# Altium footprint library Connector_PinSocket_1.27mm.PcbLib: 246 footprints (part 11 of 16)
Each footprint in its own frame and in the unit in brackets; x right, y up, seen from the top. Pads: shape width x height; smd on the part's side, far side on the other; paste and mask are expansions set on the pad; w line width, h text height; cw(c..) or ccw(c..) is an arc to the next point about the centre after c.
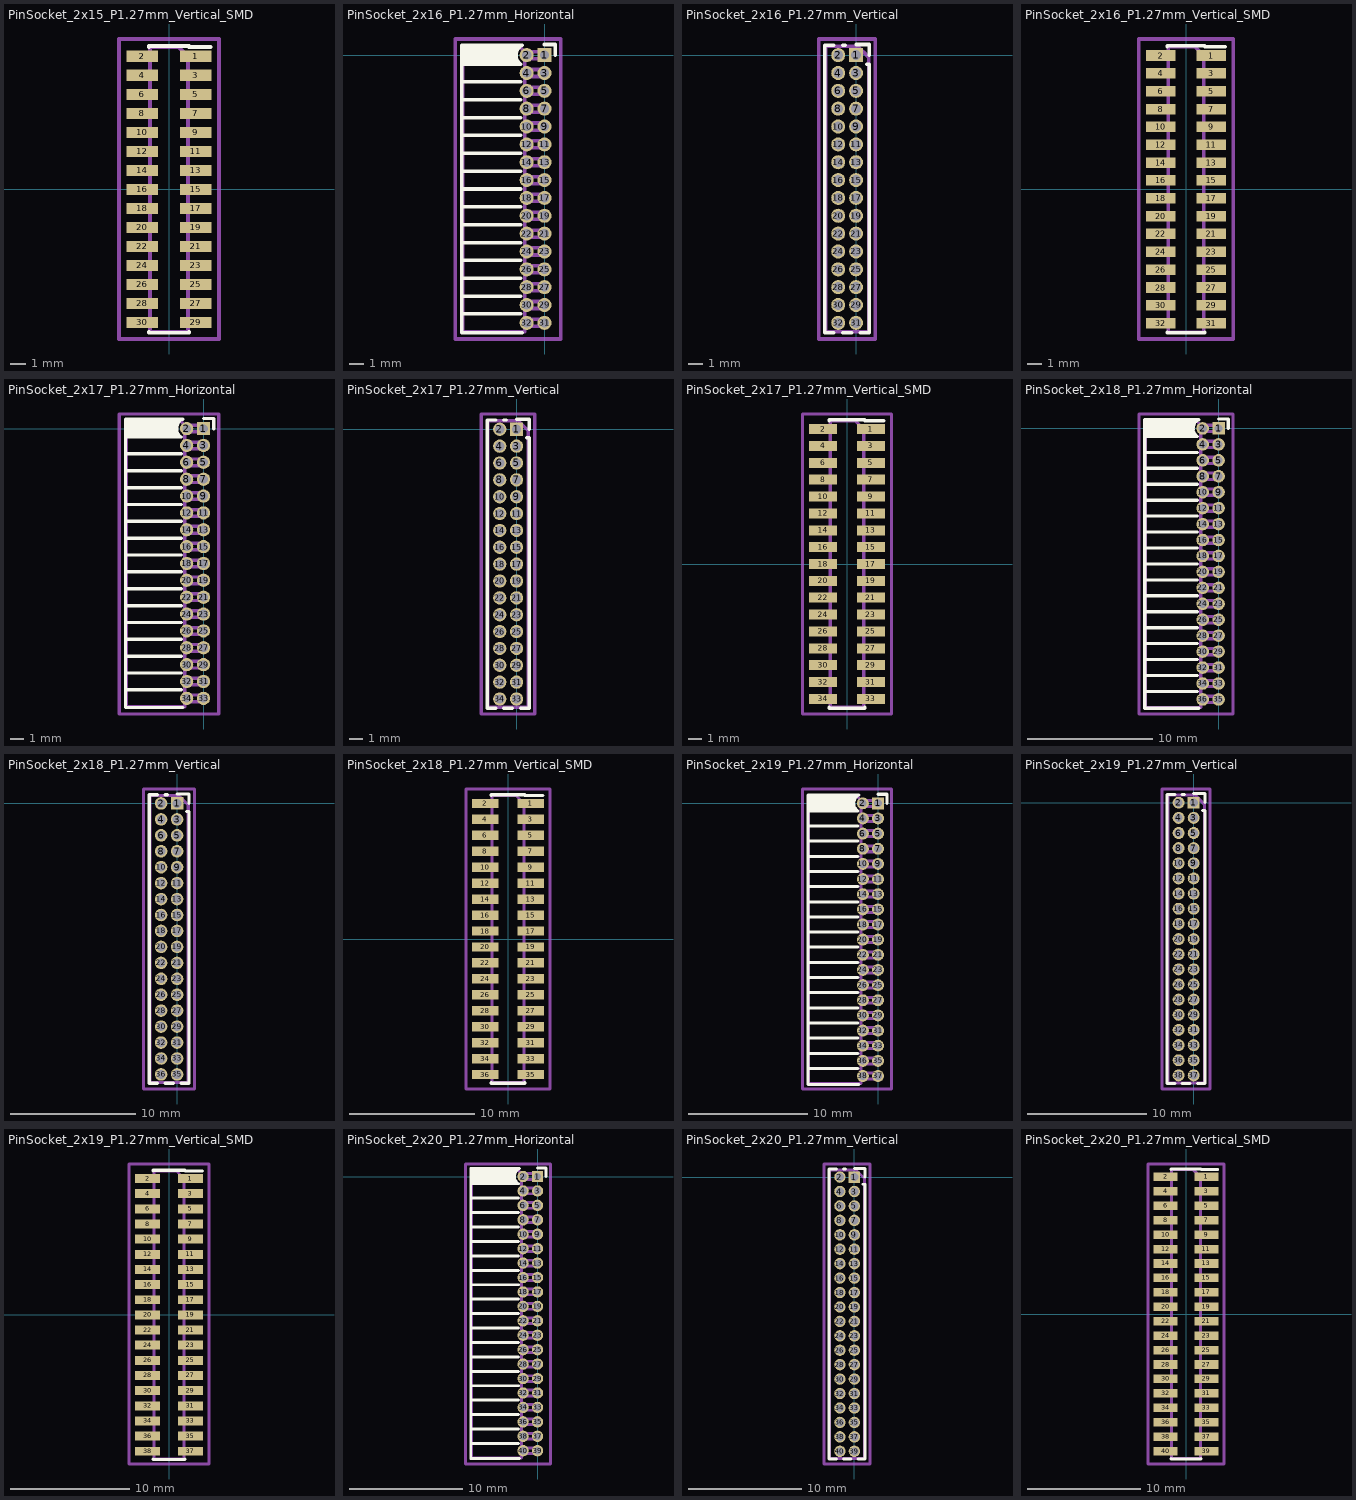
[diagram p10: the footprints below, top view; thin cyan lines are the x and y axes]

## PinSocket_2x15_P1.27mm_Vertical_SMD [mm]
pads (30):
  rect 2.1x0.75 smd: 1(1.8,8.89) 2(-1.8,8.89) 3(1.8,7.62) 4(-1.8,7.62) 5(1.8,6.35) 6(-1.8,6.35) 7(1.8,5.08) 8(-1.8,5.08) 9(1.8,3.81) 10(-1.8,3.81) 11(1.8,2.54) 12(-1.8,2.54) 13(1.8,1.27) 14(-1.8,1.27) 15(1.8,0) 16(-1.8,0) 17(1.8,-1.27) 18(-1.8,-1.27) 19(1.8,-2.54) 20(-1.8,-2.54) 21(1.8,-3.81) 22(-1.8,-3.81) 23(1.8,-5.08) 24(-1.8,-5.08) 25(1.8,-6.35) 26(-1.8,-6.35) 27(1.8,-7.62) 28(-1.8,-7.62) 29(1.8,-8.89) 30(-1.8,-8.89)
F.SilkS:
  lines w0.254: -1.33,-9.525 -1.33,-9.585 1.33,-9.585 1.33,-9.525 ; -1.33,9.525 -1.33,9.585 1.33,9.585 1.33,9.525 2.79,9.525
Top Assembly:
  lines w0.254: -1.27,-9.09 -2.555,-9.09 -2.555,-8.69 -1.27,-8.69 ; -1.27,-7.82 -2.555,-7.82 -2.555,-7.42 -1.27,-7.42 ; -1.27,-6.55 -2.555,-6.55 -2.555,-6.15 -1.27,-6.15 ; -1.27,-5.28 -2.555,-5.28 -2.555,-4.88 -1.27,-4.88 ; -1.27,-4.01 -2.555,-4.01 -2.555,-3.61 -1.27,-3.61 ; -1.27,-2.74 -2.555,-2.74 -2.555,-2.34 -1.27,-2.34 ; -1.27,-1.47 -2.555,-1.47 -2.555,-1.07 -1.27,-1.07 ; -1.27,-0.2 -2.555,-0.2 -2.555,0.2 -1.27,0.2 ; -1.27,1.07 -2.555,1.07 -2.555,1.47 -1.27,1.47 ; -1.27,2.34 -2.555,2.34 -2.555,2.74 -1.27,2.74 ; -1.27,3.61 -2.555,3.61 -2.555,4.01 -1.27,4.01 ; -1.27,4.88 -2.555,4.88 -2.555,5.28 -1.27,5.28 ; -1.27,6.15 -2.555,6.15 -2.555,6.55 -1.27,6.55 ; -1.27,7.42 -2.555,7.42 -2.555,7.82 -1.27,7.82 ; -1.27,8.69 -2.555,8.69 -2.555,9.09 -1.27,9.09 ; 1.27,-9.09 2.555,-9.09 2.555,-8.69 1.27,-8.69 ; 1.27,-7.82 2.555,-7.82 2.555,-7.42 1.27,-7.42 ; 1.27,-6.55 2.555,-6.55 2.555,-6.15 1.27,-6.15 ; 1.27,-5.28 2.555,-5.28 2.555,-4.88 1.27,-4.88 ; 1.27,-4.01 2.555,-4.01 2.555,-3.61 1.27,-3.61 ; 1.27,-2.74 2.555,-2.74 2.555,-2.34 1.27,-2.34 ; 1.27,-1.47 2.555,-1.47 2.555,-1.07 1.27,-1.07 ; 1.27,-0.2 2.555,-0.2 2.555,0.2 1.27,0.2 ; 1.27,1.07 2.555,1.07 2.555,1.47 1.27,1.47 ; 1.27,2.34 2.555,2.34 2.555,2.74 1.27,2.74 ; 1.27,3.61 2.555,3.61 2.555,4.01 1.27,4.01 ; 1.27,4.88 2.555,4.88 2.555,5.28 1.27,5.28 ; 1.27,6.15 2.555,6.15 2.555,6.55 1.27,6.55 ; 1.27,7.42 2.555,7.42 2.555,7.82 1.27,7.82 ; 1.27,8.69 2.555,8.69 2.555,9.09 1.27,9.09 ; -1.27,-9.525 1.27,-9.525 1.27,8.89 0.635,9.525 -1.27,9.525 -1.27,-9.525
  text "'.Designator'" at 0.84,-4.047 h1
Top Courtyard:
  lines w0.254: -3.35,-10 3.35,-10 3.35,10.05 -3.35,10.05 -3.35,-10
Top Designator:
  text ".Designator" at -7.618,-0.483 h1.52

## PinSocket_2x16_P1.27mm_Horizontal [mm]
pads (32):
  rect 1x1 hole 0.65: 1(0,0)
  round 1 hole 0.65: 2(-1.27,0) 3(0,-1.27) 4(-1.27,-1.27) 5(0,-2.54) 6(-1.27,-2.54) 7(0,-3.81) 8(-1.27,-3.81) 9(0,-5.08) 10(-1.27,-5.08) 11(0,-6.35) 12(-1.27,-6.35) 13(0,-7.62) 14(-1.27,-7.62) 15(0,-8.89) 16(-1.27,-8.89) 17(0,-10.16) 18(-1.27,-10.16) 19(0,-11.43) 20(-1.27,-11.43) 21(0,-12.7) 22(-1.27,-12.7) 23(0,-13.97) 24(-1.27,-13.97) 25(0,-15.24) 26(-1.27,-15.24) 27(0,-16.51) 28(-1.27,-16.51) 29(0,-17.78) 30(-1.27,-17.78) 31(0,-19.05) 32(-1.27,-19.05)
F.SilkS:
  lines w0.254: -5.88,-18.415 -1.688,-18.415 ; -5.88,-17.145 -1.688,-17.145 ; -5.88,-15.875 -1.688,-15.875 ; -5.88,-14.605 -1.688,-14.605 ; -5.88,-13.335 -1.688,-13.335 ; -5.88,-12.065 -1.688,-12.065 ; -5.88,-10.795 -1.688,-10.795 ; -5.88,-9.525 -1.688,-9.525 ; -5.88,-8.255 -1.688,-8.255 ; -5.88,-6.985 -1.688,-6.985 ; -5.88,-5.715 -1.688,-5.715 ; -5.88,-4.445 -1.688,-4.445 ; -5.88,-3.175 -1.688,-3.175 ; -5.88,-1.905 -1.688,-1.905 ; -5.88,-0.635 -1.688,-0.635 ; -5.88,-0.525 -1.82,-0.525 ; -5.88,-0.415 -1.907,-0.415 ; -5.88,-0.305 -1.966,-0.305 ; -5.88,-0.195 -2.005,-0.195 ; -5.88,-0.085 -2.025,-0.085 ; -5.88,0.025 -2.03,0.025 ; -5.88,0.135 -2.018,0.135 ; -5.88,0.245 -1.989,0.245 ; -5.88,0.355 -1.942,0.355 ; -5.88,0.465 -1.871,0.465 ; -5.88,0.575 -1.767,0.575 ; -1.578,-19.745 -5.88,-19.745 -5.88,0.695 -1.578,0.695 ; 0,0.76 0.76,0.76 0.76,0
Top Assembly:
  lines w0.254: -1.42,-19.3 0,-19.3 0,-18.8 -1.42,-18.8 ; -1.42,-18.03 0,-18.03 0,-17.53 -1.42,-17.53 ; -1.42,-16.76 0,-16.76 0,-16.26 -1.42,-16.26 ; -1.42,-15.49 0,-15.49 0,-14.99 -1.42,-14.99 ; -1.42,-14.22 0,-14.22 0,-13.72 -1.42,-13.72 ; -1.42,-12.95 0,-12.95 0,-12.45 -1.42,-12.45 ; -1.42,-11.68 0,-11.68 0,-11.18 -1.42,-11.18 ; -1.42,-10.41 0,-10.41 0,-9.91 -1.42,-9.91 ; -1.42,-9.14 0,-9.14 0,-8.64 -1.42,-8.64 ; -1.42,-7.87 0,-7.87 0,-7.37 -1.42,-7.37 ; -1.42,-6.6 0,-6.6 0,-6.1 -1.42,-6.1 ; -1.42,-5.33 0,-5.33 0,-4.83 -1.42,-4.83 ; -1.42,-4.06 0,-4.06 0,-3.56 -1.42,-3.56 ; -1.42,-2.79 0,-2.79 0,-2.29 -1.42,-2.29 ; -1.42,-1.52 0,-1.52 0,-1.02 -1.42,-1.02 ; -1.42,-0.25 0,-0.25 0,0.25 -1.42,0.25 ; -1.42,0.25 -1.42,-19.685 -5.82,-19.685 -5.82,0.635 -1.805,0.635 -1.42,0.25
  text "'.Designator'" at -2.78,-13.572 h1
Top Courtyard:
  lines w0.254: -6.35,-20.2 1.15,-20.2 1.15,1.15 -6.35,1.15 -6.35,-20.2
Top Designator:
  text ".Designator" at -10.218,-10.033 h1.52

## PinSocket_2x16_P1.27mm_Vertical [mm]
pads (32):
  rect 1x1 hole 0.7: 1(0,0)
  round 1 hole 0.7: 2(-1.27,0) 3(0,-1.27) 4(-1.27,-1.27) 5(0,-2.54) 6(-1.27,-2.54) 7(0,-3.81) 8(-1.27,-3.81) 9(0,-5.08) 10(-1.27,-5.08) 11(0,-6.35) 12(-1.27,-6.35) 13(0,-7.62) 14(-1.27,-7.62) 15(0,-8.89) 16(-1.27,-8.89) 17(0,-10.16) 18(-1.27,-10.16) 19(0,-11.43) 20(-1.27,-11.43) 21(0,-12.7) 22(-1.27,-12.7) 23(0,-13.97) 24(-1.27,-13.97) 25(0,-15.24) 26(-1.27,-15.24) 27(0,-16.51) 28(-1.27,-16.51) 29(0,-17.78) 30(-1.27,-17.78) 31(0,-19.05) 32(-1.27,-19.05)
F.SilkS:
  lines w0.254: -1.578,-19.745 -2.22,-19.745 -2.22,0.695 -1.578,0.695 ; -0.962,-19.745 -0.308,-19.745 ; -0.962,0.695 -0.76,0.695 ; 0,0.76 0.95,0.76 0.95,0 ; 0.308,-19.745 0.95,-19.745 0.95,-0.635 0.76,-0.635
Top Assembly:
  lines w0.254: -2.16,-19.685 0.89,-19.685 0.89,-0.128 0.128,0.635 -2.16,0.635 -2.16,-19.685
  text "'.Designator'" at 0.205,-13.572 h1
Top Courtyard:
  lines w0.254: -2.67,-20.2 1.38,-20.2 1.38,1.15 -2.67,1.15 -2.67,-20.2
Top Designator:
  text ".Designator" at -8.263,-10.033 h1.52

## PinSocket_2x16_P1.27mm_Vertical_SMD [mm]
pads (32):
  rect 2.1x0.75 smd: 1(1.8,9.525) 2(-1.8,9.525) 3(1.8,8.255) 4(-1.8,8.255) 5(1.8,6.985) 6(-1.8,6.985) 7(1.8,5.715) 8(-1.8,5.715) 9(1.8,4.445) 10(-1.8,4.445) 11(1.8,3.175) 12(-1.8,3.175) 13(1.8,1.905) 14(-1.8,1.905) 15(1.8,0.635) 16(-1.8,0.635) 17(1.8,-0.635) 18(-1.8,-0.635) 19(1.8,-1.905) 20(-1.8,-1.905) 21(1.8,-3.175) 22(-1.8,-3.175) 23(1.8,-4.445) 24(-1.8,-4.445) 25(1.8,-5.715) 26(-1.8,-5.715) 27(1.8,-6.985) 28(-1.8,-6.985) 29(1.8,-8.255) 30(-1.8,-8.255) 31(1.8,-9.525) 32(-1.8,-9.525)
F.SilkS:
  lines w0.254: -1.33,-10.16 -1.33,-10.22 1.33,-10.22 1.33,-10.16 ; -1.33,10.16 -1.33,10.22 1.33,10.22 1.33,10.16 2.79,10.16
Top Assembly:
  lines w0.254: -1.27,-9.725 -2.555,-9.725 -2.555,-9.325 -1.27,-9.325 ; -1.27,-8.455 -2.555,-8.455 -2.555,-8.055 -1.27,-8.055 ; -1.27,-7.185 -2.555,-7.185 -2.555,-6.785 -1.27,-6.785 ; -1.27,-5.915 -2.555,-5.915 -2.555,-5.515 -1.27,-5.515 ; -1.27,-4.645 -2.555,-4.645 -2.555,-4.245 -1.27,-4.245 ; -1.27,-3.375 -2.555,-3.375 -2.555,-2.975 -1.27,-2.975 ; -1.27,-2.105 -2.555,-2.105 -2.555,-1.705 -1.27,-1.705 ; -1.27,-0.835 -2.555,-0.835 -2.555,-0.435 -1.27,-0.435 ; -1.27,0.435 -2.555,0.435 -2.555,0.835 -1.27,0.835 ; -1.27,1.705 -2.555,1.705 -2.555,2.105 -1.27,2.105 ; -1.27,2.975 -2.555,2.975 -2.555,3.375 -1.27,3.375 ; -1.27,4.245 -2.555,4.245 -2.555,4.645 -1.27,4.645 ; -1.27,5.515 -2.555,5.515 -2.555,5.915 -1.27,5.915 ; -1.27,6.785 -2.555,6.785 -2.555,7.185 -1.27,7.185 ; -1.27,8.055 -2.555,8.055 -2.555,8.455 -1.27,8.455 ; -1.27,9.325 -2.555,9.325 -2.555,9.725 -1.27,9.725 ; 1.27,-9.725 2.555,-9.725 2.555,-9.325 1.27,-9.325 ; 1.27,-8.455 2.555,-8.455 2.555,-8.055 1.27,-8.055 ; 1.27,-7.185 2.555,-7.185 2.555,-6.785 1.27,-6.785 ; 1.27,-5.915 2.555,-5.915 2.555,-5.515 1.27,-5.515 ; 1.27,-4.645 2.555,-4.645 2.555,-4.245 1.27,-4.245 ; 1.27,-3.375 2.555,-3.375 2.555,-2.975 1.27,-2.975 ; 1.27,-2.105 2.555,-2.105 2.555,-1.705 1.27,-1.705 ; 1.27,-0.835 2.555,-0.835 2.555,-0.435 1.27,-0.435 ; 1.27,0.435 2.555,0.435 2.555,0.835 1.27,0.835 ; 1.27,1.705 2.555,1.705 2.555,2.105 1.27,2.105 ; 1.27,2.975 2.555,2.975 2.555,3.375 1.27,3.375 ; 1.27,4.245 2.555,4.245 2.555,4.645 1.27,4.645 ; 1.27,5.515 2.555,5.515 2.555,5.915 1.27,5.915 ; 1.27,6.785 2.555,6.785 2.555,7.185 1.27,7.185 ; 1.27,8.055 2.555,8.055 2.555,8.455 1.27,8.455 ; 1.27,9.325 2.555,9.325 2.555,9.725 1.27,9.725 ; -1.27,-10.16 1.27,-10.16 1.27,9.525 0.635,10.16 -1.27,10.16 -1.27,-10.16
  text "'.Designator'" at 0.84,-4.047 h1
Top Courtyard:
  lines w0.254: -3.35,-10.65 3.35,-10.65 3.35,10.7 -3.35,10.7 -3.35,-10.65
Top Designator:
  text ".Designator" at -7.618,-0.483 h1.52

## PinSocket_2x17_P1.27mm_Horizontal [mm]
pads (34):
  rect 1x1 hole 0.65: 1(0,0)
  round 1 hole 0.65: 2(-1.27,0) 3(0,-1.27) 4(-1.27,-1.27) 5(0,-2.54) 6(-1.27,-2.54) 7(0,-3.81) 8(-1.27,-3.81) 9(0,-5.08) 10(-1.27,-5.08) 11(0,-6.35) 12(-1.27,-6.35) 13(0,-7.62) 14(-1.27,-7.62) 15(0,-8.89) 16(-1.27,-8.89) 17(0,-10.16) 18(-1.27,-10.16) 19(0,-11.43) 20(-1.27,-11.43) 21(0,-12.7) 22(-1.27,-12.7) 23(0,-13.97) 24(-1.27,-13.97) 25(0,-15.24) 26(-1.27,-15.24) 27(0,-16.51) 28(-1.27,-16.51) 29(0,-17.78) 30(-1.27,-17.78) 31(0,-19.05) 32(-1.27,-19.05) 33(0,-20.32) 34(-1.27,-20.32)
F.SilkS:
  lines w0.254: -5.88,-19.685 -1.688,-19.685 ; -5.88,-18.415 -1.688,-18.415 ; -5.88,-17.145 -1.688,-17.145 ; -5.88,-15.875 -1.688,-15.875 ; -5.88,-14.605 -1.688,-14.605 ; -5.88,-13.335 -1.688,-13.335 ; -5.88,-12.065 -1.688,-12.065 ; -5.88,-10.795 -1.688,-10.795 ; -5.88,-9.525 -1.688,-9.525 ; -5.88,-8.255 -1.688,-8.255 ; -5.88,-6.985 -1.688,-6.985 ; -5.88,-5.715 -1.688,-5.715 ; -5.88,-4.445 -1.688,-4.445 ; -5.88,-3.175 -1.688,-3.175 ; -5.88,-1.905 -1.688,-1.905 ; -5.88,-0.635 -1.688,-0.635 ; -5.88,-0.525 -1.82,-0.525 ; -5.88,-0.415 -1.907,-0.415 ; -5.88,-0.305 -1.966,-0.305 ; -5.88,-0.195 -2.005,-0.195 ; -5.88,-0.085 -2.025,-0.085 ; -5.88,0.025 -2.03,0.025 ; -5.88,0.135 -2.018,0.135 ; -5.88,0.245 -1.989,0.245 ; -5.88,0.355 -1.942,0.355 ; -5.88,0.465 -1.871,0.465 ; -5.88,0.575 -1.767,0.575 ; -1.578,-21.015 -5.88,-21.015 -5.88,0.695 -1.578,0.695 ; 0,0.76 0.76,0.76 0.76,0
Top Assembly:
  lines w0.254: -1.42,-20.57 0,-20.57 0,-20.07 -1.42,-20.07 ; -1.42,-19.3 0,-19.3 0,-18.8 -1.42,-18.8 ; -1.42,-18.03 0,-18.03 0,-17.53 -1.42,-17.53 ; -1.42,-16.76 0,-16.76 0,-16.26 -1.42,-16.26 ; -1.42,-15.49 0,-15.49 0,-14.99 -1.42,-14.99 ; -1.42,-14.22 0,-14.22 0,-13.72 -1.42,-13.72 ; -1.42,-12.95 0,-12.95 0,-12.45 -1.42,-12.45 ; -1.42,-11.68 0,-11.68 0,-11.18 -1.42,-11.18 ; -1.42,-10.41 0,-10.41 0,-9.91 -1.42,-9.91 ; -1.42,-9.14 0,-9.14 0,-8.64 -1.42,-8.64 ; -1.42,-7.87 0,-7.87 0,-7.37 -1.42,-7.37 ; -1.42,-6.6 0,-6.6 0,-6.1 -1.42,-6.1 ; -1.42,-5.33 0,-5.33 0,-4.83 -1.42,-4.83 ; -1.42,-4.06 0,-4.06 0,-3.56 -1.42,-3.56 ; -1.42,-2.79 0,-2.79 0,-2.29 -1.42,-2.29 ; -1.42,-1.52 0,-1.52 0,-1.02 -1.42,-1.02 ; -1.42,-0.25 0,-0.25 0,0.25 -1.42,0.25 ; -1.42,0.25 -1.42,-20.955 -5.82,-20.955 -5.82,0.635 -1.805,0.635 -1.42,0.25
  text "'.Designator'" at -2.78,-14.207 h1
Top Courtyard:
  lines w0.254: -6.35,-21.5 1.15,-21.5 1.15,1.1 -6.35,1.1 -6.35,-21.5
Top Designator:
  text ".Designator" at -10.218,-10.708 h1.52

## PinSocket_2x17_P1.27mm_Vertical [mm]
pads (34):
  rect 1x1 hole 0.7: 1(0,0)
  round 1 hole 0.7: 2(-1.27,0) 3(0,-1.27) 4(-1.27,-1.27) 5(0,-2.54) 6(-1.27,-2.54) 7(0,-3.81) 8(-1.27,-3.81) 9(0,-5.08) 10(-1.27,-5.08) 11(0,-6.35) 12(-1.27,-6.35) 13(0,-7.62) 14(-1.27,-7.62) 15(0,-8.89) 16(-1.27,-8.89) 17(0,-10.16) 18(-1.27,-10.16) 19(0,-11.43) 20(-1.27,-11.43) 21(0,-12.7) 22(-1.27,-12.7) 23(0,-13.97) 24(-1.27,-13.97) 25(0,-15.24) 26(-1.27,-15.24) 27(0,-16.51) 28(-1.27,-16.51) 29(0,-17.78) 30(-1.27,-17.78) 31(0,-19.05) 32(-1.27,-19.05) 33(0,-20.32) 34(-1.27,-20.32)
F.SilkS:
  lines w0.254: -1.578,-21.015 -2.22,-21.015 -2.22,0.695 -1.578,0.695 ; -0.962,-21.015 -0.308,-21.015 ; -0.962,0.695 -0.76,0.695 ; 0,0.76 0.95,0.76 0.95,0 ; 0.308,-21.015 0.95,-21.015 0.95,-0.635 0.76,-0.635
Top Assembly:
  lines w0.254: -2.16,-20.955 0.89,-20.955 0.89,-0.128 0.128,0.635 -2.16,0.635 -2.16,-20.955
  text "'.Designator'" at 0.205,-14.207 h1
Top Courtyard:
  lines w0.254: -2.67,-21.45 1.38,-21.45 1.38,1.15 -2.67,1.15 -2.67,-21.45
Top Designator:
  text ".Designator" at -8.263,-10.658 h1.52

## PinSocket_2x17_P1.27mm_Vertical_SMD [mm]
pads (34):
  rect 2.1x0.75 smd: 1(1.8,10.16) 2(-1.8,10.16) 3(1.8,8.89) 4(-1.8,8.89) 5(1.8,7.62) 6(-1.8,7.62) 7(1.8,6.35) 8(-1.8,6.35) 9(1.8,5.08) 10(-1.8,5.08) 11(1.8,3.81) 12(-1.8,3.81) 13(1.8,2.54) 14(-1.8,2.54) 15(1.8,1.27) 16(-1.8,1.27) 17(1.8,0) 18(-1.8,0) 19(1.8,-1.27) 20(-1.8,-1.27) 21(1.8,-2.54) 22(-1.8,-2.54) 23(1.8,-3.81) 24(-1.8,-3.81) 25(1.8,-5.08) 26(-1.8,-5.08) 27(1.8,-6.35) 28(-1.8,-6.35) 29(1.8,-7.62) 30(-1.8,-7.62) 31(1.8,-8.89) 32(-1.8,-8.89) 33(1.8,-10.16) 34(-1.8,-10.16)
F.SilkS:
  lines w0.254: -1.33,-10.795 -1.33,-10.855 1.33,-10.855 1.33,-10.795 ; -1.33,10.795 -1.33,10.855 1.33,10.855 1.33,10.795 2.79,10.795
Top Assembly:
  lines w0.254: -1.27,-10.36 -2.555,-10.36 -2.555,-9.96 -1.27,-9.96 ; -1.27,-9.09 -2.555,-9.09 -2.555,-8.69 -1.27,-8.69 ; -1.27,-7.82 -2.555,-7.82 -2.555,-7.42 -1.27,-7.42 ; -1.27,-6.55 -2.555,-6.55 -2.555,-6.15 -1.27,-6.15 ; -1.27,-5.28 -2.555,-5.28 -2.555,-4.88 -1.27,-4.88 ; -1.27,-4.01 -2.555,-4.01 -2.555,-3.61 -1.27,-3.61 ; -1.27,-2.74 -2.555,-2.74 -2.555,-2.34 -1.27,-2.34 ; -1.27,-1.47 -2.555,-1.47 -2.555,-1.07 -1.27,-1.07 ; -1.27,-0.2 -2.555,-0.2 -2.555,0.2 -1.27,0.2 ; -1.27,1.07 -2.555,1.07 -2.555,1.47 -1.27,1.47 ; -1.27,2.34 -2.555,2.34 -2.555,2.74 -1.27,2.74 ; -1.27,3.61 -2.555,3.61 -2.555,4.01 -1.27,4.01 ; -1.27,4.88 -2.555,4.88 -2.555,5.28 -1.27,5.28 ; -1.27,6.15 -2.555,6.15 -2.555,6.55 -1.27,6.55 ; -1.27,7.42 -2.555,7.42 -2.555,7.82 -1.27,7.82 ; -1.27,8.69 -2.555,8.69 -2.555,9.09 -1.27,9.09 ; -1.27,9.96 -2.555,9.96 -2.555,10.36 -1.27,10.36 ; 1.27,-10.36 2.555,-10.36 2.555,-9.96 1.27,-9.96 ; 1.27,-9.09 2.555,-9.09 2.555,-8.69 1.27,-8.69 ; 1.27,-7.82 2.555,-7.82 2.555,-7.42 1.27,-7.42 ; 1.27,-6.55 2.555,-6.55 2.555,-6.15 1.27,-6.15 ; 1.27,-5.28 2.555,-5.28 2.555,-4.88 1.27,-4.88 ; 1.27,-4.01 2.555,-4.01 2.555,-3.61 1.27,-3.61 ; 1.27,-2.74 2.555,-2.74 2.555,-2.34 1.27,-2.34 ; 1.27,-1.47 2.555,-1.47 2.555,-1.07 1.27,-1.07 ; 1.27,-0.2 2.555,-0.2 2.555,0.2 1.27,0.2 ; 1.27,1.07 2.555,1.07 2.555,1.47 1.27,1.47 ; 1.27,2.34 2.555,2.34 2.555,2.74 1.27,2.74 ; 1.27,3.61 2.555,3.61 2.555,4.01 1.27,4.01 ; 1.27,4.88 2.555,4.88 2.555,5.28 1.27,5.28 ; 1.27,6.15 2.555,6.15 2.555,6.55 1.27,6.55 ; 1.27,7.42 2.555,7.42 2.555,7.82 1.27,7.82 ; 1.27,8.69 2.555,8.69 2.555,9.09 1.27,9.09 ; 1.27,9.96 2.555,9.96 2.555,10.36 1.27,10.36 ; -1.27,-10.795 1.27,-10.795 1.27,10.16 0.635,10.795 -1.27,10.795 -1.27,-10.795
  text "'.Designator'" at 0.84,-4.047 h1
Top Courtyard:
  lines w0.254: -3.35,-11.3 3.35,-11.3 3.35,11.3 -3.35,11.3 -3.35,-11.3
Top Designator:
  text ".Designator" at -7.618,-0.508 h1.52

## PinSocket_2x18_P1.27mm_Horizontal [mm]
pads (36):
  rect 1x1 hole 0.65: 1(0,0)
  round 1 hole 0.65: 2(-1.27,0) 3(0,-1.27) 4(-1.27,-1.27) 5(0,-2.54) 6(-1.27,-2.54) 7(0,-3.81) 8(-1.27,-3.81) 9(0,-5.08) 10(-1.27,-5.08) 11(0,-6.35) 12(-1.27,-6.35) 13(0,-7.62) 14(-1.27,-7.62) 15(0,-8.89) 16(-1.27,-8.89) 17(0,-10.16) 18(-1.27,-10.16) 19(0,-11.43) 20(-1.27,-11.43) 21(0,-12.7) 22(-1.27,-12.7) 23(0,-13.97) 24(-1.27,-13.97) 25(0,-15.24) 26(-1.27,-15.24) 27(0,-16.51) 28(-1.27,-16.51) 29(0,-17.78) 30(-1.27,-17.78) 31(0,-19.05) 32(-1.27,-19.05) 33(0,-20.32) 34(-1.27,-20.32) 35(0,-21.59) 36(-1.27,-21.59)
F.SilkS:
  lines w0.254: -5.88,-20.955 -1.688,-20.955 ; -5.88,-19.685 -1.688,-19.685 ; -5.88,-18.415 -1.688,-18.415 ; -5.88,-17.145 -1.688,-17.145 ; -5.88,-15.875 -1.688,-15.875 ; -5.88,-14.605 -1.688,-14.605 ; -5.88,-13.335 -1.688,-13.335 ; -5.88,-12.065 -1.688,-12.065 ; -5.88,-10.795 -1.688,-10.795 ; -5.88,-9.525 -1.688,-9.525 ; -5.88,-8.255 -1.688,-8.255 ; -5.88,-6.985 -1.688,-6.985 ; -5.88,-5.715 -1.688,-5.715 ; -5.88,-4.445 -1.688,-4.445 ; -5.88,-3.175 -1.688,-3.175 ; -5.88,-1.905 -1.688,-1.905 ; -5.88,-0.635 -1.688,-0.635 ; -5.88,-0.525 -1.82,-0.525 ; -5.88,-0.415 -1.907,-0.415 ; -5.88,-0.305 -1.966,-0.305 ; -5.88,-0.195 -2.005,-0.195 ; -5.88,-0.085 -2.025,-0.085 ; -5.88,0.025 -2.03,0.025 ; -5.88,0.135 -2.018,0.135 ; -5.88,0.245 -1.989,0.245 ; -5.88,0.355 -1.942,0.355 ; -5.88,0.465 -1.871,0.465 ; -5.88,0.575 -1.767,0.575 ; -1.578,-22.285 -5.88,-22.285 -5.88,0.695 -1.578,0.695 ; 0,0.76 0.76,0.76 0.76,0
Top Assembly:
  lines w0.254: -1.42,-21.84 0,-21.84 0,-21.34 -1.42,-21.34 ; -1.42,-20.57 0,-20.57 0,-20.07 -1.42,-20.07 ; -1.42,-19.3 0,-19.3 0,-18.8 -1.42,-18.8 ; -1.42,-18.03 0,-18.03 0,-17.53 -1.42,-17.53 ; -1.42,-16.76 0,-16.76 0,-16.26 -1.42,-16.26 ; -1.42,-15.49 0,-15.49 0,-14.99 -1.42,-14.99 ; -1.42,-14.22 0,-14.22 0,-13.72 -1.42,-13.72 ; -1.42,-12.95 0,-12.95 0,-12.45 -1.42,-12.45 ; -1.42,-11.68 0,-11.68 0,-11.18 -1.42,-11.18 ; -1.42,-10.41 0,-10.41 0,-9.91 -1.42,-9.91 ; -1.42,-9.14 0,-9.14 0,-8.64 -1.42,-8.64 ; -1.42,-7.87 0,-7.87 0,-7.37 -1.42,-7.37 ; -1.42,-6.6 0,-6.6 0,-6.1 -1.42,-6.1 ; -1.42,-5.33 0,-5.33 0,-4.83 -1.42,-4.83 ; -1.42,-4.06 0,-4.06 0,-3.56 -1.42,-3.56 ; -1.42,-2.79 0,-2.79 0,-2.29 -1.42,-2.29 ; -1.42,-1.52 0,-1.52 0,-1.02 -1.42,-1.02 ; -1.42,-0.25 0,-0.25 0,0.25 -1.42,0.25 ; -1.42,0.25 -1.42,-22.225 -5.82,-22.225 -5.82,0.635 -1.805,0.635 -1.42,0.25
  text "'.Designator'" at -2.78,-14.842 h1
Top Courtyard:
  lines w0.254: -6.35,-22.75 1.15,-22.75 1.15,1.15 -6.35,1.15 -6.35,-22.75
Top Designator:
  text ".Designator" at -10.218,-11.308 h1.52

## PinSocket_2x18_P1.27mm_Vertical [mm]
pads (36):
  rect 1x1 hole 0.7: 1(0,0)
  round 1 hole 0.7: 2(-1.27,0) 3(0,-1.27) 4(-1.27,-1.27) 5(0,-2.54) 6(-1.27,-2.54) 7(0,-3.81) 8(-1.27,-3.81) 9(0,-5.08) 10(-1.27,-5.08) 11(0,-6.35) 12(-1.27,-6.35) 13(0,-7.62) 14(-1.27,-7.62) 15(0,-8.89) 16(-1.27,-8.89) 17(0,-10.16) 18(-1.27,-10.16) 19(0,-11.43) 20(-1.27,-11.43) 21(0,-12.7) 22(-1.27,-12.7) 23(0,-13.97) 24(-1.27,-13.97) 25(0,-15.24) 26(-1.27,-15.24) 27(0,-16.51) 28(-1.27,-16.51) 29(0,-17.78) 30(-1.27,-17.78) 31(0,-19.05) 32(-1.27,-19.05) 33(0,-20.32) 34(-1.27,-20.32) 35(0,-21.59) 36(-1.27,-21.59)
F.SilkS:
  lines w0.254: -1.578,-22.285 -2.22,-22.285 -2.22,0.695 -1.578,0.695 ; -0.962,-22.285 -0.308,-22.285 ; -0.962,0.695 -0.76,0.695 ; 0,0.76 0.95,0.76 0.95,0 ; 0.308,-22.285 0.95,-22.285 0.95,-0.635 0.76,-0.635
Top Assembly:
  lines w0.254: -2.16,-22.225 0.89,-22.225 0.89,-0.128 0.128,0.635 -2.16,0.635 -2.16,-22.225
  text "'.Designator'" at 0.205,-14.842 h1
Top Courtyard:
  lines w0.254: -2.67,-22.75 1.38,-22.75 1.38,1.15 -2.67,1.15 -2.67,-22.75
Top Designator:
  text ".Designator" at -8.263,-11.308 h1.52

## PinSocket_2x18_P1.27mm_Vertical_SMD [mm]
pads (36):
  rect 2.1x0.75 smd: 1(1.8,10.795) 2(-1.8,10.795) 3(1.8,9.525) 4(-1.8,9.525) 5(1.8,8.255) 6(-1.8,8.255) 7(1.8,6.985) 8(-1.8,6.985) 9(1.8,5.715) 10(-1.8,5.715) 11(1.8,4.445) 12(-1.8,4.445) 13(1.8,3.175) 14(-1.8,3.175) 15(1.8,1.905) 16(-1.8,1.905) 17(1.8,0.635) 18(-1.8,0.635) 19(1.8,-0.635) 20(-1.8,-0.635) 21(1.8,-1.905) 22(-1.8,-1.905) 23(1.8,-3.175) 24(-1.8,-3.175) 25(1.8,-4.445) 26(-1.8,-4.445) 27(1.8,-5.715) 28(-1.8,-5.715) 29(1.8,-6.985) 30(-1.8,-6.985) 31(1.8,-8.255) 32(-1.8,-8.255) 33(1.8,-9.525) 34(-1.8,-9.525) 35(1.8,-10.795) 36(-1.8,-10.795)
F.SilkS:
  lines w0.254: -1.33,-11.43 -1.33,-11.49 1.33,-11.49 1.33,-11.43 ; -1.33,11.43 -1.33,11.49 1.33,11.49 1.33,11.43 2.79,11.43
Top Assembly:
  lines w0.254: -1.27,-10.995 -2.555,-10.995 -2.555,-10.595 -1.27,-10.595 ; -1.27,-9.725 -2.555,-9.725 -2.555,-9.325 -1.27,-9.325 ; -1.27,-8.455 -2.555,-8.455 -2.555,-8.055 -1.27,-8.055 ; -1.27,-7.185 -2.555,-7.185 -2.555,-6.785 -1.27,-6.785 ; -1.27,-5.915 -2.555,-5.915 -2.555,-5.515 -1.27,-5.515 ; -1.27,-4.645 -2.555,-4.645 -2.555,-4.245 -1.27,-4.245 ; -1.27,-3.375 -2.555,-3.375 -2.555,-2.975 -1.27,-2.975 ; -1.27,-2.105 -2.555,-2.105 -2.555,-1.705 -1.27,-1.705 ; -1.27,-0.835 -2.555,-0.835 -2.555,-0.435 -1.27,-0.435 ; -1.27,0.435 -2.555,0.435 -2.555,0.835 -1.27,0.835 ; -1.27,1.705 -2.555,1.705 -2.555,2.105 -1.27,2.105 ; -1.27,2.975 -2.555,2.975 -2.555,3.375 -1.27,3.375 ; -1.27,4.245 -2.555,4.245 -2.555,4.645 -1.27,4.645 ; -1.27,5.515 -2.555,5.515 -2.555,5.915 -1.27,5.915 ; -1.27,6.785 -2.555,6.785 -2.555,7.185 -1.27,7.185 ; -1.27,8.055 -2.555,8.055 -2.555,8.455 -1.27,8.455 ; -1.27,9.325 -2.555,9.325 -2.555,9.725 -1.27,9.725 ; -1.27,10.595 -2.555,10.595 -2.555,10.995 -1.27,10.995 ; 1.27,-10.995 2.555,-10.995 2.555,-10.595 1.27,-10.595 ; 1.27,-9.725 2.555,-9.725 2.555,-9.325 1.27,-9.325 ; 1.27,-8.455 2.555,-8.455 2.555,-8.055 1.27,-8.055 ; 1.27,-7.185 2.555,-7.185 2.555,-6.785 1.27,-6.785 ; 1.27,-5.915 2.555,-5.915 2.555,-5.515 1.27,-5.515 ; 1.27,-4.645 2.555,-4.645 2.555,-4.245 1.27,-4.245 ; 1.27,-3.375 2.555,-3.375 2.555,-2.975 1.27,-2.975 ; 1.27,-2.105 2.555,-2.105 2.555,-1.705 1.27,-1.705 ; 1.27,-0.835 2.555,-0.835 2.555,-0.435 1.27,-0.435 ; 1.27,0.435 2.555,0.435 2.555,0.835 1.27,0.835 ; 1.27,1.705 2.555,1.705 2.555,2.105 1.27,2.105 ; 1.27,2.975 2.555,2.975 2.555,3.375 1.27,3.375 ; 1.27,4.245 2.555,4.245 2.555,4.645 1.27,4.645 ; 1.27,5.515 2.555,5.515 2.555,5.915 1.27,5.915 ; 1.27,6.785 2.555,6.785 2.555,7.185 1.27,7.185 ; 1.27,8.055 2.555,8.055 2.555,8.455 1.27,8.455 ; 1.27,9.325 2.555,9.325 2.555,9.725 1.27,9.725 ; 1.27,10.595 2.555,10.595 2.555,10.995 1.27,10.995 ; -1.27,-11.43 1.27,-11.43 1.27,10.795 0.635,11.43 -1.27,11.43 -1.27,-11.43
  text "'.Designator'" at 0.84,-4.047 h1
Top Courtyard:
  lines w0.254: -3.35,-11.95 3.35,-11.95 3.35,11.95 -3.35,11.95 -3.35,-11.95
Top Designator:
  text ".Designator" at -7.618,-0.508 h1.52

## PinSocket_2x19_P1.27mm_Horizontal [mm]
pads (38):
  rect 1x1 hole 0.65: 1(0,0)
  round 1 hole 0.65: 2(-1.27,0) 3(0,-1.27) 4(-1.27,-1.27) 5(0,-2.54) 6(-1.27,-2.54) 7(0,-3.81) 8(-1.27,-3.81) 9(0,-5.08) 10(-1.27,-5.08) 11(0,-6.35) 12(-1.27,-6.35) 13(0,-7.62) 14(-1.27,-7.62) 15(0,-8.89) 16(-1.27,-8.89) 17(0,-10.16) 18(-1.27,-10.16) 19(0,-11.43) 20(-1.27,-11.43) 21(0,-12.7) 22(-1.27,-12.7) 23(0,-13.97) 24(-1.27,-13.97) 25(0,-15.24) 26(-1.27,-15.24) 27(0,-16.51) 28(-1.27,-16.51) 29(0,-17.78) 30(-1.27,-17.78) 31(0,-19.05) 32(-1.27,-19.05) 33(0,-20.32) 34(-1.27,-20.32) 35(0,-21.59) 36(-1.27,-21.59) 37(0,-22.86) 38(-1.27,-22.86)
F.SilkS:
  lines w0.254: -5.88,-22.225 -1.688,-22.225 ; -5.88,-20.955 -1.688,-20.955 ; -5.88,-19.685 -1.688,-19.685 ; -5.88,-18.415 -1.688,-18.415 ; -5.88,-17.145 -1.688,-17.145 ; -5.88,-15.875 -1.688,-15.875 ; -5.88,-14.605 -1.688,-14.605 ; -5.88,-13.335 -1.688,-13.335 ; -5.88,-12.065 -1.688,-12.065 ; -5.88,-10.795 -1.688,-10.795 ; -5.88,-9.525 -1.688,-9.525 ; -5.88,-8.255 -1.688,-8.255 ; -5.88,-6.985 -1.688,-6.985 ; -5.88,-5.715 -1.688,-5.715 ; -5.88,-4.445 -1.688,-4.445 ; -5.88,-3.175 -1.688,-3.175 ; -5.88,-1.905 -1.688,-1.905 ; -5.88,-0.635 -1.688,-0.635 ; -5.88,-0.525 -1.82,-0.525 ; -5.88,-0.415 -1.907,-0.415 ; -5.88,-0.305 -1.966,-0.305 ; -5.88,-0.195 -2.005,-0.195 ; -5.88,-0.085 -2.025,-0.085 ; -5.88,0.025 -2.03,0.025 ; -5.88,0.135 -2.018,0.135 ; -5.88,0.245 -1.989,0.245 ; -5.88,0.355 -1.942,0.355 ; -5.88,0.465 -1.871,0.465 ; -5.88,0.575 -1.767,0.575 ; -1.578,-23.555 -5.88,-23.555 -5.88,0.695 -1.578,0.695 ; 0,0.76 0.76,0.76 0.76,0
Top Assembly:
  lines w0.254: -1.42,-23.11 0,-23.11 0,-22.61 -1.42,-22.61 ; -1.42,-21.84 0,-21.84 0,-21.34 -1.42,-21.34 ; -1.42,-20.57 0,-20.57 0,-20.07 -1.42,-20.07 ; -1.42,-19.3 0,-19.3 0,-18.8 -1.42,-18.8 ; -1.42,-18.03 0,-18.03 0,-17.53 -1.42,-17.53 ; -1.42,-16.76 0,-16.76 0,-16.26 -1.42,-16.26 ; -1.42,-15.49 0,-15.49 0,-14.99 -1.42,-14.99 ; -1.42,-14.22 0,-14.22 0,-13.72 -1.42,-13.72 ; -1.42,-12.95 0,-12.95 0,-12.45 -1.42,-12.45 ; -1.42,-11.68 0,-11.68 0,-11.18 -1.42,-11.18 ; -1.42,-10.41 0,-10.41 0,-9.91 -1.42,-9.91 ; -1.42,-9.14 0,-9.14 0,-8.64 -1.42,-8.64 ; -1.42,-7.87 0,-7.87 0,-7.37 -1.42,-7.37 ; -1.42,-6.6 0,-6.6 0,-6.1 -1.42,-6.1 ; -1.42,-5.33 0,-5.33 0,-4.83 -1.42,-4.83 ; -1.42,-4.06 0,-4.06 0,-3.56 -1.42,-3.56 ; -1.42,-2.79 0,-2.79 0,-2.29 -1.42,-2.29 ; -1.42,-1.52 0,-1.52 0,-1.02 -1.42,-1.02 ; -1.42,-0.25 0,-0.25 0,0.25 -1.42,0.25 ; -1.42,0.25 -1.42,-23.495 -5.82,-23.495 -5.82,0.635 -1.805,0.635 -1.42,0.25
  text "'.Designator'" at -2.78,-15.477 h1
Top Courtyard:
  lines w0.254: -6.35,-23.95 1.15,-23.95 1.15,1.2 -6.35,1.2 -6.35,-23.95
Top Designator:
  text ".Designator" at -10.218,-11.883 h1.52

## PinSocket_2x19_P1.27mm_Vertical [mm]
pads (38):
  rect 1x1 hole 0.7: 1(0,0)
  round 1 hole 0.7: 2(-1.27,0) 3(0,-1.27) 4(-1.27,-1.27) 5(0,-2.54) 6(-1.27,-2.54) 7(0,-3.81) 8(-1.27,-3.81) 9(0,-5.08) 10(-1.27,-5.08) 11(0,-6.35) 12(-1.27,-6.35) 13(0,-7.62) 14(-1.27,-7.62) 15(0,-8.89) 16(-1.27,-8.89) 17(0,-10.16) 18(-1.27,-10.16) 19(0,-11.43) 20(-1.27,-11.43) 21(0,-12.7) 22(-1.27,-12.7) 23(0,-13.97) 24(-1.27,-13.97) 25(0,-15.24) 26(-1.27,-15.24) 27(0,-16.51) 28(-1.27,-16.51) 29(0,-17.78) 30(-1.27,-17.78) 31(0,-19.05) 32(-1.27,-19.05) 33(0,-20.32) 34(-1.27,-20.32) 35(0,-21.59) 36(-1.27,-21.59) 37(0,-22.86) 38(-1.27,-22.86)
F.SilkS:
  lines w0.254: -1.578,-23.555 -2.22,-23.555 -2.22,0.695 -1.578,0.695 ; -0.962,-23.555 -0.308,-23.555 ; -0.962,0.695 -0.76,0.695 ; 0,0.76 0.95,0.76 0.95,0 ; 0.308,-23.555 0.95,-23.555 0.95,-0.635 0.76,-0.635
Top Assembly:
  lines w0.254: -2.16,-23.495 0.89,-23.495 0.89,-0.128 0.128,0.635 -2.16,0.635 -2.16,-23.495
  text "'.Designator'" at 0.205,-15.477 h1
Top Courtyard:
  lines w0.254: -2.67,-24 1.38,-24 1.38,1.15 -2.67,1.15 -2.67,-24
Top Designator:
  text ".Designator" at -8.263,-11.933 h1.52

## PinSocket_2x19_P1.27mm_Vertical_SMD [mm]
pads (38):
  rect 2.1x0.75 smd: 1(1.8,11.43) 2(-1.8,11.43) 3(1.8,10.16) 4(-1.8,10.16) 5(1.8,8.89) 6(-1.8,8.89) 7(1.8,7.62) 8(-1.8,7.62) 9(1.8,6.35) 10(-1.8,6.35) 11(1.8,5.08) 12(-1.8,5.08) 13(1.8,3.81) 14(-1.8,3.81) 15(1.8,2.54) 16(-1.8,2.54) 17(1.8,1.27) 18(-1.8,1.27) 19(1.8,0) 20(-1.8,0) 21(1.8,-1.27) 22(-1.8,-1.27) 23(1.8,-2.54) 24(-1.8,-2.54) 25(1.8,-3.81) 26(-1.8,-3.81) 27(1.8,-5.08) 28(-1.8,-5.08) 29(1.8,-6.35) 30(-1.8,-6.35) 31(1.8,-7.62) 32(-1.8,-7.62) 33(1.8,-8.89) 34(-1.8,-8.89) 35(1.8,-10.16) 36(-1.8,-10.16) 37(1.8,-11.43) 38(-1.8,-11.43)
F.SilkS:
  lines w0.254: -1.33,-12.065 -1.33,-12.125 1.33,-12.125 1.33,-12.065 ; -1.33,12.065 -1.33,12.125 1.33,12.125 1.33,12.065 2.79,12.065
Top Assembly:
  lines w0.254: -1.27,-11.63 -2.555,-11.63 -2.555,-11.23 -1.27,-11.23 ; -1.27,-10.36 -2.555,-10.36 -2.555,-9.96 -1.27,-9.96 ; -1.27,-9.09 -2.555,-9.09 -2.555,-8.69 -1.27,-8.69 ; -1.27,-7.82 -2.555,-7.82 -2.555,-7.42 -1.27,-7.42 ; -1.27,-6.55 -2.555,-6.55 -2.555,-6.15 -1.27,-6.15 ; -1.27,-5.28 -2.555,-5.28 -2.555,-4.88 -1.27,-4.88 ; -1.27,-4.01 -2.555,-4.01 -2.555,-3.61 -1.27,-3.61 ; -1.27,-2.74 -2.555,-2.74 -2.555,-2.34 -1.27,-2.34 ; -1.27,-1.47 -2.555,-1.47 -2.555,-1.07 -1.27,-1.07 ; -1.27,-0.2 -2.555,-0.2 -2.555,0.2 -1.27,0.2 ; -1.27,1.07 -2.555,1.07 -2.555,1.47 -1.27,1.47 ; -1.27,2.34 -2.555,2.34 -2.555,2.74 -1.27,2.74 ; -1.27,3.61 -2.555,3.61 -2.555,4.01 -1.27,4.01 ; -1.27,4.88 -2.555,4.88 -2.555,5.28 -1.27,5.28 ; -1.27,6.15 -2.555,6.15 -2.555,6.55 -1.27,6.55 ; -1.27,7.42 -2.555,7.42 -2.555,7.82 -1.27,7.82 ; -1.27,8.69 -2.555,8.69 -2.555,9.09 -1.27,9.09 ; -1.27,9.96 -2.555,9.96 -2.555,10.36 -1.27,10.36 ; -1.27,11.23 -2.555,11.23 -2.555,11.63 -1.27,11.63 ; 1.27,-11.63 2.555,-11.63 2.555,-11.23 1.27,-11.23 ; 1.27,-10.36 2.555,-10.36 2.555,-9.96 1.27,-9.96 ; 1.27,-9.09 2.555,-9.09 2.555,-8.69 1.27,-8.69 ; 1.27,-7.82 2.555,-7.82 2.555,-7.42 1.27,-7.42 ; 1.27,-6.55 2.555,-6.55 2.555,-6.15 1.27,-6.15 ; 1.27,-5.28 2.555,-5.28 2.555,-4.88 1.27,-4.88 ; 1.27,-4.01 2.555,-4.01 2.555,-3.61 1.27,-3.61 ; 1.27,-2.74 2.555,-2.74 2.555,-2.34 1.27,-2.34 ; 1.27,-1.47 2.555,-1.47 2.555,-1.07 1.27,-1.07 ; 1.27,-0.2 2.555,-0.2 2.555,0.2 1.27,0.2 ; 1.27,1.07 2.555,1.07 2.555,1.47 1.27,1.47 ; 1.27,2.34 2.555,2.34 2.555,2.74 1.27,2.74 ; 1.27,3.61 2.555,3.61 2.555,4.01 1.27,4.01 ; 1.27,4.88 2.555,4.88 2.555,5.28 1.27,5.28 ; 1.27,6.15 2.555,6.15 2.555,6.55 1.27,6.55 ; 1.27,7.42 2.555,7.42 2.555,7.82 1.27,7.82 ; 1.27,8.69 2.555,8.69 2.555,9.09 1.27,9.09 ; 1.27,9.96 2.555,9.96 2.555,10.36 1.27,10.36 ; 1.27,11.23 2.555,11.23 2.555,11.63 1.27,11.63 ; -1.27,-12.065 1.27,-12.065 1.27,11.43 0.635,12.065 -1.27,12.065 -1.27,-12.065
  text "'.Designator'" at 0.84,-4.047 h1
Top Courtyard:
  lines w0.254: -3.35,-12.5 3.35,-12.5 3.35,12.65 -3.35,12.65 -3.35,-12.5
Top Designator:
  text ".Designator" at -7.618,-0.433 h1.52

## PinSocket_2x20_P1.27mm_Horizontal [mm]
pads (40):
  rect 1x1 hole 0.65: 1(0,0)
  round 1 hole 0.65: 2(-1.27,0) 3(0,-1.27) 4(-1.27,-1.27) 5(0,-2.54) 6(-1.27,-2.54) 7(0,-3.81) 8(-1.27,-3.81) 9(0,-5.08) 10(-1.27,-5.08) 11(0,-6.35) 12(-1.27,-6.35) 13(0,-7.62) 14(-1.27,-7.62) 15(0,-8.89) 16(-1.27,-8.89) 17(0,-10.16) 18(-1.27,-10.16) 19(0,-11.43) 20(-1.27,-11.43) 21(0,-12.7) 22(-1.27,-12.7) 23(0,-13.97) 24(-1.27,-13.97) 25(0,-15.24) 26(-1.27,-15.24) 27(0,-16.51) 28(-1.27,-16.51) 29(0,-17.78) 30(-1.27,-17.78) 31(0,-19.05) 32(-1.27,-19.05) 33(0,-20.32) 34(-1.27,-20.32) 35(0,-21.59) 36(-1.27,-21.59) 37(0,-22.86) 38(-1.27,-22.86) 39(0,-24.13) 40(-1.27,-24.13)
F.SilkS:
  lines w0.254: -5.88,-23.495 -1.688,-23.495 ; -5.88,-22.225 -1.688,-22.225 ; -5.88,-20.955 -1.688,-20.955 ; -5.88,-19.685 -1.688,-19.685 ; -5.88,-18.415 -1.688,-18.415 ; -5.88,-17.145 -1.688,-17.145 ; -5.88,-15.875 -1.688,-15.875 ; -5.88,-14.605 -1.688,-14.605 ; -5.88,-13.335 -1.688,-13.335 ; -5.88,-12.065 -1.688,-12.065 ; -5.88,-10.795 -1.688,-10.795 ; -5.88,-9.525 -1.688,-9.525 ; -5.88,-8.255 -1.688,-8.255 ; -5.88,-6.985 -1.688,-6.985 ; -5.88,-5.715 -1.688,-5.715 ; -5.88,-4.445 -1.688,-4.445 ; -5.88,-3.175 -1.688,-3.175 ; -5.88,-1.905 -1.688,-1.905 ; -5.88,-0.635 -1.688,-0.635 ; -5.88,-0.525 -1.82,-0.525 ; -5.88,-0.415 -1.907,-0.415 ; -5.88,-0.305 -1.966,-0.305 ; -5.88,-0.195 -2.005,-0.195 ; -5.88,-0.085 -2.025,-0.085 ; -5.88,0.025 -2.03,0.025 ; -5.88,0.135 -2.018,0.135 ; -5.88,0.245 -1.989,0.245 ; -5.88,0.355 -1.942,0.355 ; -5.88,0.465 -1.871,0.465 ; -5.88,0.575 -1.767,0.575 ; -1.578,-24.825 -5.88,-24.825 -5.88,0.695 -1.578,0.695 ; 0,0.76 0.76,0.76 0.76,0
Top Assembly:
  lines w0.254: -1.42,-24.38 0,-24.38 0,-23.88 -1.42,-23.88 ; -1.42,-23.11 0,-23.11 0,-22.61 -1.42,-22.61 ; -1.42,-21.84 0,-21.84 0,-21.34 -1.42,-21.34 ; -1.42,-20.57 0,-20.57 0,-20.07 -1.42,-20.07 ; -1.42,-19.3 0,-19.3 0,-18.8 -1.42,-18.8 ; -1.42,-18.03 0,-18.03 0,-17.53 -1.42,-17.53 ; -1.42,-16.76 0,-16.76 0,-16.26 -1.42,-16.26 ; -1.42,-15.49 0,-15.49 0,-14.99 -1.42,-14.99 ; -1.42,-14.22 0,-14.22 0,-13.72 -1.42,-13.72 ; -1.42,-12.95 0,-12.95 0,-12.45 -1.42,-12.45 ; -1.42,-11.68 0,-11.68 0,-11.18 -1.42,-11.18 ; -1.42,-10.41 0,-10.41 0,-9.91 -1.42,-9.91 ; -1.42,-9.14 0,-9.14 0,-8.64 -1.42,-8.64 ; -1.42,-7.87 0,-7.87 0,-7.37 -1.42,-7.37 ; -1.42,-6.6 0,-6.6 0,-6.1 -1.42,-6.1 ; -1.42,-5.33 0,-5.33 0,-4.83 -1.42,-4.83 ; -1.42,-4.06 0,-4.06 0,-3.56 -1.42,-3.56 ; -1.42,-2.79 0,-2.79 0,-2.29 -1.42,-2.29 ; -1.42,-1.52 0,-1.52 0,-1.02 -1.42,-1.02 ; -1.42,-0.25 0,-0.25 0,0.25 -1.42,0.25 ; -1.42,0.25 -1.42,-24.765 -5.82,-24.765 -5.82,0.635 -1.805,0.635 -1.42,0.25
  text "'.Designator'" at -2.78,-16.112 h1
Top Courtyard:
  lines w0.254: -6.35,-25.3 1.15,-25.3 1.15,1.1 -6.35,1.1 -6.35,-25.3
Top Designator:
  text ".Designator" at -10.218,-12.608 h1.52

## PinSocket_2x20_P1.27mm_Vertical [mm]
pads (40):
  rect 1x1 hole 0.7: 1(0,0)
  round 1 hole 0.7: 2(-1.27,0) 3(0,-1.27) 4(-1.27,-1.27) 5(0,-2.54) 6(-1.27,-2.54) 7(0,-3.81) 8(-1.27,-3.81) 9(0,-5.08) 10(-1.27,-5.08) 11(0,-6.35) 12(-1.27,-6.35) 13(0,-7.62) 14(-1.27,-7.62) 15(0,-8.89) 16(-1.27,-8.89) 17(0,-10.16) 18(-1.27,-10.16) 19(0,-11.43) 20(-1.27,-11.43) 21(0,-12.7) 22(-1.27,-12.7) 23(0,-13.97) 24(-1.27,-13.97) 25(0,-15.24) 26(-1.27,-15.24) 27(0,-16.51) 28(-1.27,-16.51) 29(0,-17.78) 30(-1.27,-17.78) 31(0,-19.05) 32(-1.27,-19.05) 33(0,-20.32) 34(-1.27,-20.32) 35(0,-21.59) 36(-1.27,-21.59) 37(0,-22.86) 38(-1.27,-22.86) 39(0,-24.13) 40(-1.27,-24.13)
F.SilkS:
  lines w0.254: -1.578,-24.825 -2.22,-24.825 -2.22,0.695 -1.578,0.695 ; -0.962,-24.825 -0.308,-24.825 ; -0.962,0.695 -0.76,0.695 ; 0,0.76 0.95,0.76 0.95,0 ; 0.308,-24.825 0.95,-24.825 0.95,-0.635 0.76,-0.635
Top Assembly:
  lines w0.254: -2.16,-24.765 0.89,-24.765 0.89,-0.128 0.128,0.635 -2.16,0.635 -2.16,-24.765
  text "'.Designator'" at 0.205,-16.112 h1
Top Courtyard:
  lines w0.254: -2.67,-25.25 1.38,-25.25 1.38,1.15 -2.67,1.15 -2.67,-25.25
Top Designator:
  text ".Designator" at -8.263,-12.558 h1.52

## PinSocket_2x20_P1.27mm_Vertical_SMD [mm]
pads (40):
  rect 2.1x0.75 smd: 1(1.8,12.065) 2(-1.8,12.065) 3(1.8,10.795) 4(-1.8,10.795) 5(1.8,9.525) 6(-1.8,9.525) 7(1.8,8.255) 8(-1.8,8.255) 9(1.8,6.985) 10(-1.8,6.985) 11(1.8,5.715) 12(-1.8,5.715) 13(1.8,4.445) 14(-1.8,4.445) 15(1.8,3.175) 16(-1.8,3.175) 17(1.8,1.905) 18(-1.8,1.905) 19(1.8,0.635) 20(-1.8,0.635) 21(1.8,-0.635) 22(-1.8,-0.635) 23(1.8,-1.905) 24(-1.8,-1.905) 25(1.8,-3.175) 26(-1.8,-3.175) 27(1.8,-4.445) 28(-1.8,-4.445) 29(1.8,-5.715) 30(-1.8,-5.715) 31(1.8,-6.985) 32(-1.8,-6.985) 33(1.8,-8.255) 34(-1.8,-8.255) 35(1.8,-9.525) 36(-1.8,-9.525) 37(1.8,-10.795) 38(-1.8,-10.795) 39(1.8,-12.065) 40(-1.8,-12.065)
F.SilkS:
  lines w0.254: -1.33,-12.7 -1.33,-12.76 1.33,-12.76 1.33,-12.7 ; -1.33,12.7 -1.33,12.76 1.33,12.76 1.33,12.7 2.79,12.7
Top Assembly:
  lines w0.254: -1.27,-12.265 -2.555,-12.265 -2.555,-11.865 -1.27,-11.865 ; -1.27,-10.995 -2.555,-10.995 -2.555,-10.595 -1.27,-10.595 ; -1.27,-9.725 -2.555,-9.725 -2.555,-9.325 -1.27,-9.325 ; -1.27,-8.455 -2.555,-8.455 -2.555,-8.055 -1.27,-8.055 ; -1.27,-7.185 -2.555,-7.185 -2.555,-6.785 -1.27,-6.785 ; -1.27,-5.915 -2.555,-5.915 -2.555,-5.515 -1.27,-5.515 ; -1.27,-4.645 -2.555,-4.645 -2.555,-4.245 -1.27,-4.245 ; -1.27,-3.375 -2.555,-3.375 -2.555,-2.975 -1.27,-2.975 ; -1.27,-2.105 -2.555,-2.105 -2.555,-1.705 -1.27,-1.705 ; -1.27,-0.835 -2.555,-0.835 -2.555,-0.435 -1.27,-0.435 ; -1.27,0.435 -2.555,0.435 -2.555,0.835 -1.27,0.835 ; -1.27,1.705 -2.555,1.705 -2.555,2.105 -1.27,2.105 ; -1.27,2.975 -2.555,2.975 -2.555,3.375 -1.27,3.375 ; -1.27,4.245 -2.555,4.245 -2.555,4.645 -1.27,4.645 ; -1.27,5.515 -2.555,5.515 -2.555,5.915 -1.27,5.915 ; -1.27,6.785 -2.555,6.785 -2.555,7.185 -1.27,7.185 ; -1.27,8.055 -2.555,8.055 -2.555,8.455 -1.27,8.455 ; -1.27,9.325 -2.555,9.325 -2.555,9.725 -1.27,9.725 ; -1.27,10.595 -2.555,10.595 -2.555,10.995 -1.27,10.995 ; -1.27,11.865 -2.555,11.865 -2.555,12.265 -1.27,12.265 ; 1.27,-12.265 2.555,-12.265 2.555,-11.865 1.27,-11.865 ; 1.27,-10.995 2.555,-10.995 2.555,-10.595 1.27,-10.595 ; 1.27,-9.725 2.555,-9.725 2.555,-9.325 1.27,-9.325 ; 1.27,-8.455 2.555,-8.455 2.555,-8.055 1.27,-8.055 ; 1.27,-7.185 2.555,-7.185 2.555,-6.785 1.27,-6.785 ; 1.27,-5.915 2.555,-5.915 2.555,-5.515 1.27,-5.515 ; 1.27,-4.645 2.555,-4.645 2.555,-4.245 1.27,-4.245 ; 1.27,-3.375 2.555,-3.375 2.555,-2.975 1.27,-2.975 ; 1.27,-2.105 2.555,-2.105 2.555,-1.705 1.27,-1.705 ; 1.27,-0.835 2.555,-0.835 2.555,-0.435 1.27,-0.435 ; 1.27,0.435 2.555,0.435 2.555,0.835 1.27,0.835 ; 1.27,1.705 2.555,1.705 2.555,2.105 1.27,2.105 ; 1.27,2.975 2.555,2.975 2.555,3.375 1.27,3.375 ; 1.27,4.245 2.555,4.245 2.555,4.645 1.27,4.645 ; 1.27,5.515 2.555,5.515 2.555,5.915 1.27,5.915 ; 1.27,6.785 2.555,6.785 2.555,7.185 1.27,7.185 ; 1.27,8.055 2.555,8.055 2.555,8.455 1.27,8.455 ; 1.27,9.325 2.555,9.325 2.555,9.725 1.27,9.725 ; 1.27,10.595 2.555,10.595 2.555,10.995 1.27,10.995 ; 1.27,11.865 2.555,11.865 2.555,12.265 1.27,12.265 ; -1.27,-12.7 1.27,-12.7 1.27,12.065 0.635,12.7 -1.27,12.7 -1.27,-12.7
  text "'.Designator'" at 0.84,-4.047 h1
Top Courtyard:
  lines w0.254: -3.35,-13.2 3.35,-13.2 3.35,13.2 -3.35,13.2 -3.35,-13.2
Top Designator:
  text ".Designator" at -7.618,-0.508 h1.52